# Altium schematic symbol library HM10 SCHEMATIC.SchLib: 1 symbol
Pins are listed as number, name and electrical type; pins without a type are passive.

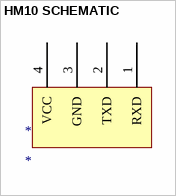
[diagram p0: symbol HM10 SCHEMATIC]

## HM10 SCHEMATIC
designator *
pins: 1 RXD, 2 TXD, 3 GND, 4 VCC